# EAGLE library part ARDUINO-PRO-MINI (library Robot)
Arduino Pro Mini This is SparkFun's version of the Arduino Pro Mini board.
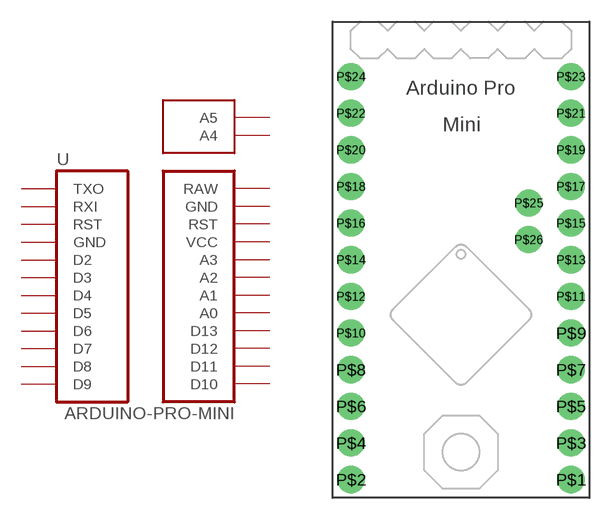
[diagram p21: symbol with the pads of ARDUINO-PRO-MINI; footprint ARDUINO-PRO-MINI]

Designator prefix -

## ARDUINO-PRO-MINI-SFE  [ARDUINO-PRO-MINI]
P$1  D10  pas
P$2  D9  pas
P$3  D11  pas
P$4  D8  pas
P$5  D12  pas
P$6  D7  pas
P$7  D13  pas
P$8  D6  pas
P$9  A0  pas
P$10  D5  pas
P$11  A1  pas
P$12  D4  pas
P$13  A2  pas
P$14  D3  pas
P$15  A3  pas
P$16  D2  pas
P$17  VCC  pas
P$18  GND  pas
P$19  RST  pas
P$20  RST  pas
P$21  GND  pas
P$22  RXI  pas
P$23  RAW  pas
P$24  TXO  pas
P$25  A5  pas
P$26  A4  pas

## Footprint ARDUINO-PRO-MINI (pad centres in mm)
Arduino Pro Mini This is the outline of the Arduino Pro Mini as made by SparkFun.
drill 1.016 pad 1.88: P$1 16.51,1.27; P$2 1.27,1.27; P$3 16.51,3.81; P$4 1.27,3.81; P$5 16.51,6.35; P$6 1.27,6.35; P$7 16.51,8.89; P$8 1.27,8.89; P$9 16.51,11.43; P$10 1.27,11.43; P$11 16.51,13.97; P$12 1.27,13.97; P$13 16.51,16.51; P$14 1.27,16.51; P$15 16.51,19.05; P$16 1.27,19.05; P$17 16.51,21.59; P$18 1.27,21.59; P$19 16.51,24.13; P$20 1.27,24.13; P$21 16.51,26.67; P$22 1.27,26.67; P$23 16.51,29.21; P$24 1.27,29.21; P$25 13.589,20.447; P$26 13.589,17.907